# Altium integrated library Integrated_Library_rotaray.IntLib: 1 symbol
Pins are listed as number, name and electrical type; pins without a type are passive.

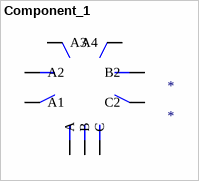
[diagram p0: symbol Component_1]

## Component_1
designator *
pins: A, A1, A2, A3, A4, B, B2, C, C2